# Altium footprint library ABRA-L1150W480H420-2.PcbLib: 1 footprints
Each footprint in its own frame and in the unit in brackets; x right, y up, seen from the top. Pads: shape width x height; smd on the part's side, far side on the other; paste and mask are expansions set on the pad; w line width, h text height; cw(c..) or ccw(c..) is an arc to the next point about the centre after c.
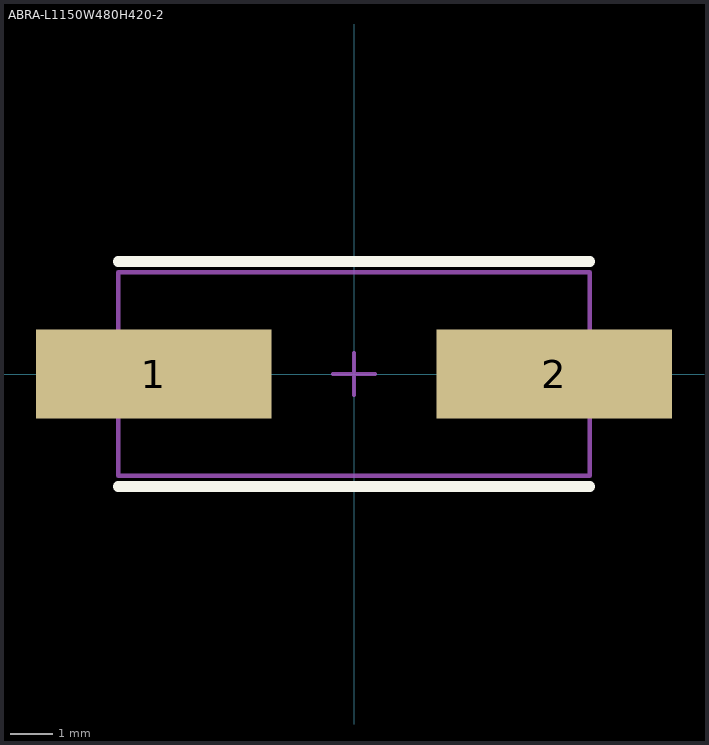
[diagram p0: the footprint, top view; thin cyan lines are the x and y axes]

## ABRA-L1150W480H420-2 [mil] "CRYSTAL,  Height 4.2mm"
height 165.35
pads (2):
  rect 220x83 smd: 1(-187,0) 2(187,0)
Top Overlay:
  lines w10: -220,-105 220,-105 ; -220,105 220,105
Mechanical 13:
  lines w3.94: -220,-95 220,-95 220,95 -220,95 -220,-95
Mechanical 15:
  lines w3.94: -19.69,0 19.68,0 ; 0,-19.68 0,19.68
3D body: height 169.29, standoff 2.08, extent -228.46,-94.48 247.92,94.5